# Altium footprint library leds.PcbLib: 1 footprints
Each footprint in its own frame and in the unit in brackets; x right, y up, seen from the top. Pads: shape width x height; smd on the part's side, far side on the other; paste and mask are expansions set on the pad; w line width, h text height; cw(c..) or ccw(c..) is an arc to the next point about the centre after c.
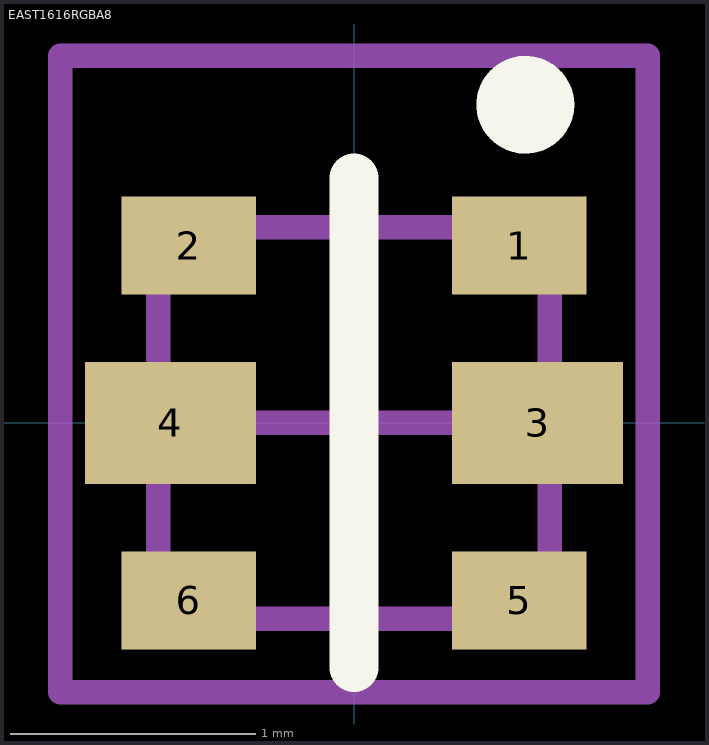
[diagram p0: the footprint, top view; thin cyan lines are the x and y axes]

## EAST1616RGBA8 [mm] "0606 SMD"
height 0.35
pads (6):
  rect 0.55x0.4 smd: 1(0.675,0.725) 2(-0.675,0.725) 5(0.675,-0.725) 6(-0.675,-0.725)
  rect 0.7x0.5 smd: 3(0.75,0) 4(-0.75,0)
Top Overlay:
  circle w0.2: c0.7,1.3 r0.1
  lines w0.2: 0,-1 0,1
Top 3D Body:
  lines w0.1: -0.8,-0.8 0.8,-0.8 0.8,0.8 -0.8,0.8 -0.8,-0.8
Top Assembly:
  lines w0.1: -0.8,-0.8 0.8,-0.8 0.8,0.8 -0.8,0.8 -0.8,-0.8
Top Component Center:
  lines w0.1: -0.5,0 0.5,0 ; 0,-0.5 0,0.5
Top Courtyard:
  lines w0.1: -1.2,-1.1 -1.2,1.5 1.2,1.5 1.2,-1.1 -1.2,-1.1
Top Designator:
  text "''.Designator''" at 0,0 h2.5
Top Value:
  text "''.Comment''" at 0,0 h2.5
3D body "EAST1616RGBA8-no-plastics.STEP": height 0.25, standoff 0, extent -0.8,-0.8 0.8,0.8
3D body "EAST1616RGBA8-only-plastics.STEP": height 0.35, standoff 0.15, extent -0.55,-0.8 0.55,0.8